# Altium footprint library DIODFN2_58X28X16L17X24N.PcbLib: 1 footprints
Each footprint in its own frame and in the unit in brackets; x right, y up, seen from the top. Pads: shape width x height; smd on the part's side, far side on the other; paste and mask are expansions set on the pad; w line width, h text height; cw(c..) or ccw(c..) is an arc to the next point about the centre after c.
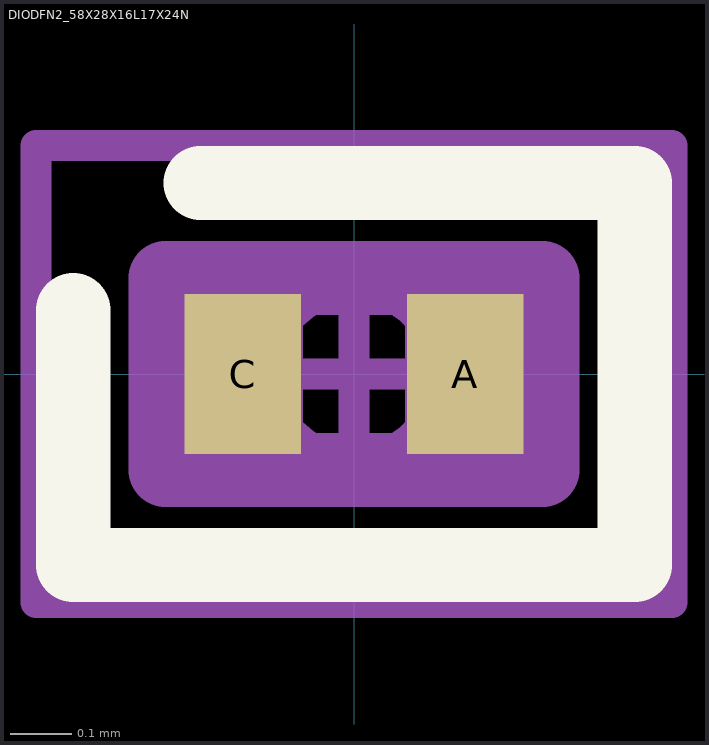
[diagram p0: the footprint, top view; thin cyan lines are the x and y axes]

## DIODFN2_58X28X16L17X24N [mm] "Diode, Dual Flat No-Lead, 2 pin; 0.58 mm L X 0.28 mm W X 0.16 mm H Body"
height 0.16
pads (2):
  rect 0.188x0.259 smd: A(0.18,0) C(-0.18,0)
Top Overlay:
  lines w0.12: -0.454,0.103 -0.454,-0.309 0.454,-0.309 0.454,0.309 -0.248,0.309
Mechanical 3:
  lines w0.12: -0.305,-0.155 0.305,-0.155 0.305,0.155 -0.305,0.155 -0.305,-0.155
Mechanical 5:
  lines w0.025: -0.29,-0.14 0.29,-0.14 0.29,0.14 -0.29,0.14 -0.29,-0.14 ; -0.265,-0.12 -0.265,0.12 -0.095,0.12 -0.095,-0.12 -0.265,-0.12 ; 0.095,-0.12 0.265,-0.12 0.265,0.12 0.095,0.12 0.095,-0.12
Mechanical 7:
  circle w0.05: c0,0 r0.139
  lines w0.05: -0.185,0 0.185,0 ; 0,-0.185 0,0.185 ; -0.514,-0.369 0.514,-0.369 0.514,0.369 -0.514,0.369 -0.514,-0.369
Mechanical 9:
  text "'.Designator'" at -5.436,0.364 h1.02
3D body "DIODFN2_58X28X16L17X24.STEP": height 0.16, standoff 0, extent -0.29,-0.14 0.29,0.14
3D body: height 23.4, standoff -5, extent -0.514,-0.369 0.514,0.369